# EAGLE library part 7820-0000PR (library 3M_By_element14_Batch_1)
20/PCB/2ROW/2.8MM
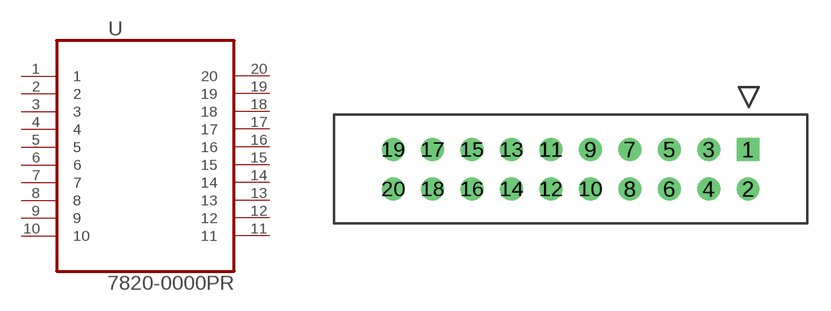
[diagram p59: symbol with the pads of 3M_7820-0000PR; footprint 3M_7820-0000PR]

Designator prefix U

## 7820-0000PR (MPN: 7820-0000PR; OC_FARNELL: 9138749; OC_NEWARK: 10M8281; PACKAGE: 20/PCB/2ROW/2.8MM; SUPPLIER: 3M)  [3M_7820-0000PR]
1  1  pas
2  2  pas
3  3  pas
4  4  pas
5  5  pas
6  6  pas
7  7  pas
8  8  pas
9  9  pas
10  10  pas
11  11  pas
12  12  pas
13  13  pas
14  14  pas
15  15  pas
16  16  pas
17  17  pas
18  18  pas
19  19  pas
20  20  pas

## Footprint 3M_7820-0000PR (pad centres in mm)
drill 0.965 square: 1 0,2.54
drill 0.965: 2 0,0; 3 -2.54,2.54; 4 -2.54,0; 5 -5.08,2.54; 6 -5.08,0; 7 -7.62,2.54; 8 -7.62,0; 9 -10.16,2.54; 10 -10.16,0; 11 -12.7,2.54; 12 -12.7,0; 13 -15.24,2.54; 14 -15.24,0; 15 -17.78,2.54; 16 -17.78,0; 17 -20.32,2.54; 18 -20.32,0; 19 -22.86,2.54; 20 -22.86,0